# Altium schematic symbol library RES240R.Schlib: 1 symbol
Pins are listed as number, name and electrical type; pins without a type are passive.

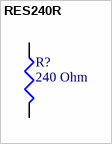
[diagram p0: symbol RES240R]

## RES240R
designator R?, comment 240 Ohm
signal-integrity model Res
footprint 1206
pins: 1, 2
2 alternate drawings of the same symbol